# Altium schematic symbol library TMP75C-Q1.SchLib: 1 symbol
Pins are listed as number, name and electrical type; pins without a type are passive.

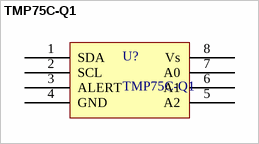
[diagram p0: symbol TMP75C-Q1]

## TMP75C-Q1
designator U?
Manufacturer: Texas Instruments; Reference: TMP75C-Q1
footprint TMP75C-Q1 (TMP75C-Q1 SOIC 8)
pins: 1 SDA, 2 SCL, 3 ALERT, 4 GND, 5 A2, 6 A1, 7 A0, 8 Vs